# Altium footprint library Connector.PcbLib: 10 footprints
Each footprint in its own frame and in the unit in brackets; x right, y up, seen from the top. Pads: shape width x height; smd on the part's side, far side on the other; paste and mask are expansions set on the pad; w line width, h text height; cw(c..) or ccw(c..) is an arc to the next point about the centre after c.
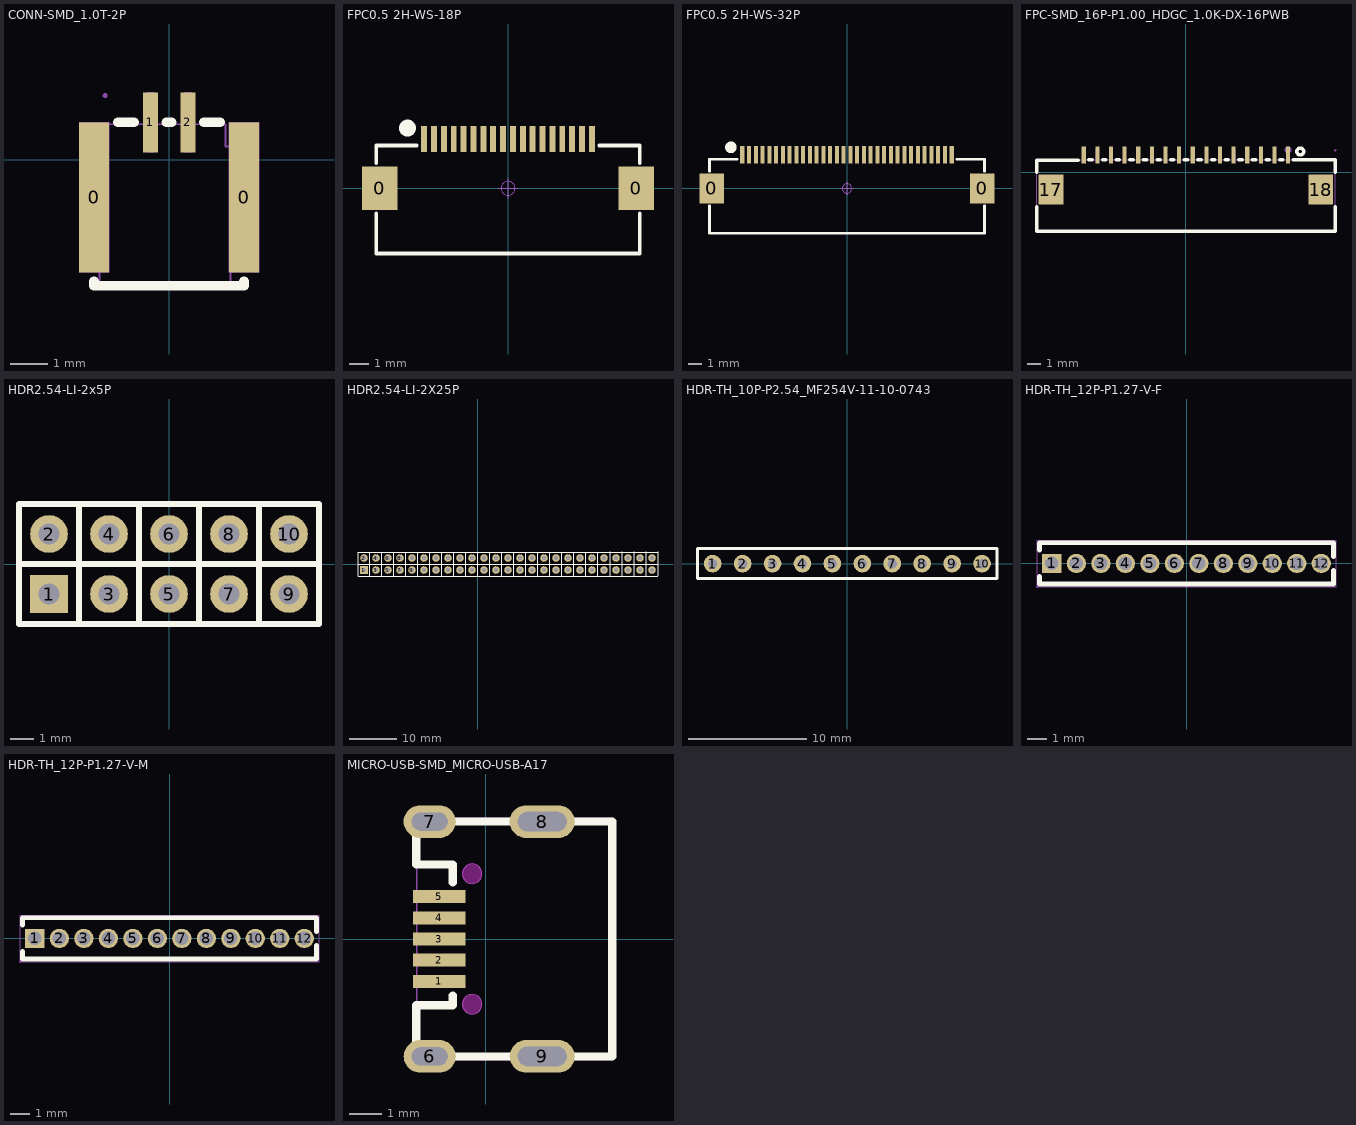
[diagram p0: the footprints below, top view; thin cyan lines are the x and y axes]

## CONN-SMD_1.0T-2P [mm]
pads (4):
  rect 0.8x4 smd paste+0 mask+0.051: 0(-2,-0.999) 0(2,-0.999)
  rect 0.4x1.6 smd paste+0 mask+0.051: 1(-0.498,0.999) 2(0.502,0.999)
Top Overlay:
  lines w0.254: -2,-3.23 -2,-3.349 2,-3.349 2,-3.23 ; -1.369,1.001 -1,1.001 ; -1.204,1.001 -0.929,1.001 ; -0.067,1.001 0.071,1.001 ; 0.933,1 1.369,1 ; 0.933,1.001 1.369,1.001
Mechanical 15:
  region: -1.645,1.715 -1.645,1.74 -1.68,1.775 -1.73,1.775 -1.765,1.74 -1.765,1.715 -1.765,1.69 -1.73,1.655 -1.68,1.655 -1.645,1.69 -1.645,1.715
  region: -2.4,1.001 -1.6,1.001 -1.6,-2.999 -2.4,-2.999
  region: 1.6,1.001 2.4,1.001 2.4,-2.999 1.6,-2.999
  region: 0.402,1.799 0.602,1.799 0.602,0.199 0.402,0.199
  region: -0.598,1.799 -0.398,1.799 -0.398,0.199 -0.598,0.199
  lines w0.051: -1.858,0.362 -1.858,-3.288 -1.857,-3.289 1.642,-3.289 ; -1.858,0.362 -1.858,0.362 ; -1.858,0.362 -1.719,0.362 -1.719,0.362 -1.717,0.951 1.501,0.951 ; 1.501,0.951 1.501,0.952 ; 1.501,0.952 1.501,0.362 1.502,0.361 1.642,0.361 ; 1.642,-3.289 1.642,0.361 ; 1.642,-3.289 1.642,-3.289 ; 1.642,0.361 1.642,0.361
3D body "CONN-SMD_1.0T-2P.STEP": height 2.45, standoff 0, extent -1.75,-3.397 1.75,1.603

## FPC0.5 2H-WS-18P [mm] "长：13.2mm，宽：5.2mm，高：2mm"
pads (20):
  rect 1.8x2.2 smd: 0(-6.5,0) 0(6.5,0)
  rect 0.3x1.3 smd: 1(-4.25,2.497) 2(-3.75,2.497) 3(-3.25,2.497) 4(-2.75,2.497) 5(-2.25,2.497) 6(-1.75,2.497) 7(-1.25,2.497) 8(-0.75,2.497) 9(-0.25,2.497) 10(0.25,2.497) 11(0.75,2.497) 12(1.25,2.497) 13(1.75,2.497) 14(2.25,2.497) 15(2.75,2.497) 16(3.25,2.497) 17(3.75,2.497) 18(4.25,2.497)
Top Overlay:
  circle w0.5: c-5.094,3.048 r0.18
  lines w0.2: -6.675,-1.27 -6.675,-3.302 6.675,-3.302 6.675,-1.27 ; -6.675,1.27 -6.675,2.159 -4.643,2.159 ; 4.643,2.159 6.675,2.159 6.675,1.27
Mechanical 15:
  circle w0.05: c0,0 r0.35
  lines w0.05: -0.5,0 0.5,0 ; 0,-0.5 0,0.5
3D body "FPC0.5 2H-S-W-18P.STEP": height 2, standoff -0.01, extent -6.6,-3.15 6.6,2.85

## FPC0.5 2H-WS-32P [mm] "长：20.2mm，宽：5.2mm，高：2mm"
pads (34):
  rect 1.8x2.2 smd: 0(-10,0) 0(10,0)
  rect 0.3x1.3 smd: 1(-7.75,2.497) 2(-7.25,2.497) 3(-6.75,2.497) 4(-6.25,2.497) 5(-5.75,2.497) 6(-5.25,2.497) 7(-4.75,2.497) 8(-4.25,2.497) 9(-3.75,2.497) 10(-3.25,2.497) 11(-2.75,2.497) 12(-2.25,2.497) 13(-1.75,2.497) 14(-1.25,2.497) 15(-0.75,2.497) 16(-0.25,2.497) 17(0.25,2.497) 18(0.75,2.497) 19(1.25,2.497) 20(1.75,2.497) 21(2.25,2.497) 22(2.75,2.497) 23(3.25,2.497) 24(3.75,2.497) 25(4.25,2.497) 26(4.75,2.497) 27(5.25,2.497) 28(5.75,2.497) 29(6.25,2.497) 30(6.75,2.497) 31(7.25,2.497) 32(7.75,2.497)
Top Overlay:
  circle w0.5: c-8.594,3.048 r0.18
  lines w0.2: -10.175,-1.27 -10.175,-3.302 10.175,-3.302 10.175,-1.27 ; -10.175,1.27 -10.175,2.159 -8.143,2.159 ; 8.143,2.159 10.175,2.159 10.175,1.27
Mechanical 15:
  circle w0.05: c0,0 r0.35
  lines w0.05: -0.5,0 0.5,0 ; 0,-0.5 0,0.5
3D body "FPC0.5 2H-S-W-32P.STEP": height 2, standoff -0.01, extent -10.1,-3.15 10.1,2.85

## FPC-SMD_16P-P1.00_HDGC_1.0K-DX-16PWB [mm]
pads (18):
  rect 0.3x1.25 smd paste+0 mask+0.05: 1(7.5,1.263) 2(6.5,1.263) 3(5.5,1.263) 4(4.5,1.263) 5(3.5,1.263) 6(2.5,1.263) 7(1.5,1.263) 8(0.5,1.263) 9(-0.5,1.263) 10(-1.5,1.263) 11(-2.5,1.263) 12(-3.5,1.263) 13(-4.5,1.263) 14(-5.5,1.263) 15(-6.5,1.263) 16(-7.5,1.263)
  rect 1.8x2.2 smd paste+0 mask+0.05: 17(-9.9,-1.263) 18(9.9,-1.263)
Top Overlay:
  circle w0.254: c8.382,1.524 r0.254
  lines w0.254: -10.95,-2.538 -10.95,-4.338 10.95,-4.338 10.95,-2.538 ; -10.95,0.012 -10.95,0.889 -7.881,0.889 ; -7.119,0.912 -6.881,0.912 ; -6.119,0.912 -5.881,0.912 ; -5.119,0.912 -4.881,0.912 ; -4.119,0.912 -3.881,0.912 ; -3.119,0.912 -2.881,0.912 ; -2.119,0.912 -1.881,0.912 ; -1.119,0.912 -0.881,0.912 ; -0.119,0.912 0.119,0.912 ; 0.881,0.912 1.119,0.912 ; 1.881,0.912 2.119,0.912 ; 2.881,0.912 3.119,0.912 ; 3.881,0.912 4.119,0.912 ; 4.881,0.912 5.119,0.912 ; 5.881,0.912 6.119,0.912 ; 6.881,0.912 7.119,0.912 ; 7.881,0.912 10.95,0.912 10.95,0.013
Mechanical 6:
  circle w0.254: c7.493,1.651 r0.127
Mechanical 15:
  region: 11.01,1.612 11.01,1.637 10.975,1.672 10.925,1.672 10.89,1.637 10.89,1.612 10.89,1.587 10.925,1.552 10.975,1.552 11.01,1.587 11.01,1.612
  region: 7.4,1.612 7.6,1.612 7.6,0.712 7.4,0.712
  region: 6.4,1.612 6.6,1.612 6.6,0.712 6.4,0.712
  region: 5.4,1.612 5.6,1.612 5.6,0.712 5.4,0.712
  region: 4.4,1.612 4.6,1.612 4.6,0.712 4.4,0.712
  region: 3.4,1.612 3.6,1.612 3.6,0.712 3.4,0.712
  region: 2.4,1.612 2.6,1.612 2.6,0.712 2.4,0.712
  region: 1.4,1.612 1.6,1.612 1.6,0.712 1.4,0.712
  region: 0.4,1.612 0.6,1.612 0.6,0.712 0.4,0.712
  region: -0.6,1.612 -0.4,1.612 -0.4,0.712 -0.6,0.712
  region: -1.6,1.612 -1.4,1.612 -1.4,0.712 -1.6,0.712
  region: -2.6,1.612 -2.4,1.612 -2.4,0.712 -2.6,0.712
  region: -3.6,1.612 -3.4,1.612 -3.4,0.712 -3.6,0.712
  region: -4.6,1.612 -4.4,1.612 -4.4,0.712 -4.6,0.712
  region: -5.6,1.612 -5.4,1.612 -5.4,0.712 -5.6,0.712
  region: -6.6,1.612 -6.4,1.612 -6.4,0.712 -6.6,0.712
  region: -7.6,1.612 -7.4,1.612 -7.4,0.712 -7.6,0.712
  region: -10.65,-0.263 -9.15,-0.263 -9.15,-2.263 -10.65,-2.263
  region: 9.15,-0.263 10.65,-0.263 10.65,-2.263 9.15,-2.263
  lines w0.051: -10.95,-4.338 -10.95,0.912 10.95,0.912 10.95,-4.338 -10.95,-4.338
3D body "FPC-SMD_16P-P1.00_HDGC_1.0K-DX-16PWB.STEP": height 2.03, standoff 0, extent -10.7,-4.582 10.7,1.368

## HDR2.54-LI-2x5P [mm] "双排排针，5x2脚"
pads (10):
  rect 1.6x1.6 hole 0.9: 1(-5.08,-1.27)
  round 1.6 hole 0.9: 2(-5.08,1.27) 3(-2.54,-1.27) 4(-2.54,1.27) 5(0,-1.27) 6(0,1.27) 7(2.54,-1.27) 8(2.54,1.27) 9(5.08,-1.27) 10(5.08,1.27)
Top Overlay:
  lines w0.254: -6.35,0 6.35,0 ; -3.81,-2.54 -3.81,2.54 ; -1.27,-2.54 -1.27,2.54 ; 1.27,-2.54 1.27,2.54 ; 3.81,-2.54 3.81,2.54 ; 6.35,-2.54 6.35,2.54 ; 6.35,-2.54 -6.35,-2.54 -6.35,2.54 6.35,2.54 ; 6.35,-2.54 6.35,2.54
3D body "HDR2.54-1x2P.STEP": height 8.5, standoff -3, extent 3.81,-2.54 6.35,2.54
3D body "HDR2.54-1x2P.STEP": height 8.5, standoff -3, extent -3.81,-2.54 -1.27,2.54
3D body "HDR2.54-1x2P.STEP": height 8.5, standoff -3, extent -6.35,-2.54 -3.81,2.54
3D body "HDR2.54-1x2P.STEP": height 8.5, standoff -3, extent 1.27,-2.54 3.81,2.54
3D body "HDR2.54-1x2P.STEP": height 8.5, standoff -3, extent -1.27,-2.54 1.27,2.54

## HDR2.54-LI-2X25P [mm] "双排排针，25x2脚"
pads (50):
  rect 1.6x1.6 hole 0.9: 1(-24.13,-1.27)
  round 1.6 hole 0.9: 2(-24.13,1.27) 3(-21.59,-1.27) 4(-21.59,1.27) 5(-19.05,-1.27) 6(-19.05,1.27) 7(-16.51,-1.27) 8(-16.51,1.27) 9(-13.97,-1.27) 10(-13.97,1.27) 11(-11.43,-1.27) 12(-11.43,1.27) 13(-8.89,-1.27) 14(-8.89,1.27) 15(-6.35,-1.27) 16(-6.35,1.27) 17(-3.81,-1.27) 18(-3.81,1.27) 19(-1.27,-1.27) 20(-1.27,1.27) 21(1.27,-1.27) 22(1.27,1.27) 23(3.81,-1.27) 24(3.81,1.27) 25(6.35,-1.27) 26(6.35,1.27) 27(8.89,-1.27) 28(8.89,1.27) 29(11.43,-1.27) 30(11.43,1.27) 31(13.97,-1.27) 32(13.97,1.27) 33(16.51,-1.27) 34(16.51,1.27) 35(19.05,-1.27) 36(19.05,1.27) 37(21.59,-1.27) 38(21.59,1.27) 39(24.13,-1.27) 40(24.13,1.27) 41(26.67,-1.27) 42(26.67,1.27) 43(29.21,-1.27) 44(29.21,1.27) 45(31.75,-1.27) 46(31.75,1.27) 47(34.29,-1.27) 48(34.29,1.27) 49(36.83,-1.27) 50(36.83,1.27)
Top Overlay:
  lines w0.2: 38.1,-2.54 -25.4,-2.54 -25.4,2.54 38.1,2.54
  lines w0.203: -25.4,0 38.1,0 ; -22.86,-2.54 -22.86,2.54 ; -20.32,-2.54 -20.32,2.54 ; -17.78,-2.54 -17.78,2.54 ; -15.24,-2.54 -15.24,2.54 ; -12.7,-2.54 -12.7,2.54 ; -10.16,-2.54 -10.16,2.54 ; -7.62,-2.54 -7.62,2.54 ; -5.08,-2.54 -5.08,2.54 ; -2.54,-2.54 -2.54,2.54 ; 0,-2.54 0,2.54 ; 2.54,-2.54 2.54,2.54 ; 5.08,-2.54 5.08,2.54 ; 7.62,-2.54 7.62,2.54 ; 10.16,-2.54 10.16,2.54 ; 12.7,-2.54 12.7,2.54 ; 15.24,-2.54 15.24,2.54 ; 17.78,-2.54 17.78,2.54 ; 20.32,-2.54 20.32,2.54 ; 22.86,-2.54 22.86,2.54 ; 25.4,-2.54 25.4,2.54 ; 27.94,-2.54 27.94,2.54 ; 30.48,-2.54 30.48,2.54 ; 33.02,-2.54 33.02,2.54 ; 35.56,-2.54 35.56,2.54 ; 38.1,-2.54 38.1,2.54
3D body "HDR2.54-1x2P.STEP": height 8.5, standoff -3, extent 33.02,-2.54 35.56,2.54
3D body "HDR2.54-1x2P.STEP": height 8.5, standoff -3, extent 25.4,-2.54 27.94,2.54
3D body "HDR2.54-1x2P.STEP": height 8.5, standoff -3, extent 30.48,-2.54 33.02,2.54
3D body "HDR2.54-1x2P.STEP": height 8.5, standoff -3, extent 27.94,-2.54 30.48,2.54
3D body "HDR2.54-1x2P.STEP": height 8.5, standoff -3, extent 35.56,-2.54 38.1,2.54
3D body "HDR2.54-1x2P.STEP": height 8.5, standoff -3, extent 17.78,-2.54 20.32,2.54
3D body "HDR2.54-1x2P.STEP": height 8.5, standoff -3, extent 20.32,-2.54 22.86,2.54
3D body "HDR2.54-1x2P.STEP": height 8.5, standoff -3, extent 12.7,-2.54 15.24,2.54
3D body "HDR2.54-1x2P.STEP": height 8.5, standoff -3, extent 15.24,-2.54 17.78,2.54
3D body "HDR2.54-1x2P.STEP": height 8.5, standoff -3, extent 22.86,-2.54 25.4,2.54
3D body "HDR2.54-1x2P.STEP": height 8.5, standoff -3, extent 5.08,-2.54 7.62,2.54
3D body "HDR2.54-1x2P.STEP": height 8.5, standoff -3, extent 7.62,-2.54 10.16,2.54
3D body "HDR2.54-1x2P.STEP": height 8.5, standoff -3, extent 0,-2.54 2.54,2.54
3D body "HDR2.54-1x2P.STEP": height 8.5, standoff -3, extent 2.54,-2.54 5.08,2.54
3D body "HDR2.54-1x2P.STEP": height 8.5, standoff -3, extent 10.16,-2.54 12.7,2.54
3D body "HDR2.54-1x2P.STEP": height 8.5, standoff -3, extent -7.62,-2.54 -5.08,2.54
3D body "HDR2.54-1x2P.STEP": height 8.5, standoff -3, extent -5.08,-2.54 -2.54,2.54
3D body "HDR2.54-1x2P.STEP": height 8.5, standoff -3, extent -12.7,-2.54 -10.16,2.54
3D body "HDR2.54-1x2P.STEP": height 8.5, standoff -3, extent -10.16,-2.54 -7.62,2.54
3D body "HDR2.54-1x2P.STEP": height 8.5, standoff -3, extent -2.54,-2.54 0,2.54
3D body "HDR2.54-1x2P.STEP": height 8.5, standoff -3, extent -20.32,-2.54 -17.78,2.54
3D body "HDR2.54-1x2P.STEP": height 8.5, standoff -3, extent -17.78,-2.54 -15.24,2.54
3D body "HDR2.54-1x2P.STEP": height 8.5, standoff -3, extent -25.4,-2.54 -22.86,2.54
3D body "HDR2.54-1x2P.STEP": height 8.5, standoff -3, extent -22.86,-2.54 -20.32,2.54
3D body "HDR2.54-1x2P.STEP": height 8.5, standoff -3, extent -15.24,-2.54 -12.7,2.54

## HDR-TH_10P-P2.54_MF254V-11-10-0743 [mm]
pads (10):
  round 1.5 hole 0.8 paste+0 mask+0.05: 1(-11.43,0) 2(-8.89,0) 3(-6.35,0) 4(-3.81,0) 5(-1.27,0) 6(1.27,0) 7(3.81,0) 8(6.35,0) 9(8.89,0) 10(11.43,0)
Top Overlay:
  lines w0.254: -12.7,-1.27 12.7,-1.27 12.7,1.27 -12.7,1.27 -12.7,-1.27
Mechanical 15:
  drawing of 15 lines, arcs and shapes, not listed
3D body "HDR-TH_10P-P2.54_MF254V-11-10-0743.STEP": height 4.57, standoff -2.8, extent -12.7,-1.407 12.7,1.143

## HDR-TH_12P-P1.27-V-F [mm] "12P排母"
pads (12):
  rect 1x1 hole 0.7 paste+0 mask+0.051: 1(-6.985,0)
  round 1 hole 0.7 paste+0 mask+0.051: 2(-5.715,0) 3(-4.445,0) 4(-3.175,0) 5(-1.905,0) 6(-0.635,0) 7(0.635,0) 8(1.905,0) 9(3.175,0) 10(4.445,0) 11(5.715,0) 12(6.985,0)
Top Overlay:
  lines w0.254: -7.62,-0.687 -7.62,-1.07 7.62,-1.07 ; -7.62,0.687 -7.62,1.07 7.62,1.07 ; 7.62,-1.07 7.62,-0.36 7.62,-1.07 ; 7.62,1.07 7.62,0.36 7.62,1.07
Mechanical 15:
  drawing of 17 lines, arcs and shapes, not listed
3D body "HDR-TH_12P-P1.27-V-F.STEP": height 4.3, standoff -2.4, extent -7.693,-1.05 7.957,1.05

## HDR-TH_12P-P1.27-V-M [mm] "12P排针"
pads (12):
  rect 1x1 hole 0.7 paste+0 mask+0.051: 1(-6.985,0)
  round 1 hole 0.7 paste+0 mask+0.051: 2(-5.715,0) 3(-4.445,0) 4(-3.175,0) 5(-1.905,0) 6(-0.635,0) 7(0.635,0) 8(1.905,0) 9(3.175,0) 10(4.445,0) 11(5.715,0) 12(6.985,0)
Top Overlay:
  lines w0.254: -7.62,-0.687 -7.62,-1.07 7.62,-1.07 ; -7.62,0.687 -7.62,1.07 7.62,1.07 ; 7.62,-1.07 7.62,-0.36 7.62,-1.07 ; 7.62,1.07 7.62,0.36 7.62,1.07
Mechanical 15:
  drawing of 17 lines, arcs and shapes, not listed
3D body "HDR-TH_12P-P1.27-V-M.STEP": height 4, standoff -1.8, extent -7.63,-1.177 7.62,0.923

## MICRO-USB-SMD_MICRO-USB-A17 [mm]
pads (9):
  rect 1.6x0.4 smd paste-100 mask+0.051: 1(-1.435,-1.3) 2(-1.435,-0.65) 3(-1.435,0) 4(-1.435,0.65) 5(-1.435,1.3)
  oval 1.6x1 hole 0.55 slot 1.1 at 0 deg copper offset 0.001,0 paste+0 mask+0.051: 6(-1.725,-3.599)
  oval 1.6x1 hole 0.55 slot 1.1 at 0 deg copper offset -0.001,0 paste+0 mask+0.051: 7(-1.725,3.599)
  oval 2x1 hole 0.6 slot 1.5 at 0 deg copper offset -0.001,0.001 paste+0 mask+0.051: 8(1.724,3.599)
  oval 2x1 hole 0.6 slot 1.5 at 0 deg copper offset 0.001,0.001 paste+0 mask+0.051: 9(1.724,-3.599)
Top Overlay:
  lines w0.254: -2.136,-3.581 -2.136,-2.032 -1.018,-2.032 -1.018,-1.731 ; -2.136,3.607 -2.136,2.286 -1.018,2.286 -1.018,1.731 ; -2.125,-3.6 3.875,-3.6 3.875,3.6 -2.125,3.6
Top Paste:
  region: -2.025,-4.1 -2.124,-4.1 -2.308,-4.024 -2.449,-3.883 -2.525,-3.699 -2.525,-3.501 -2.449,-3.317 -2.308,-3.176 -2.124,-3.1 -2.025,-3.1 -1.425,-3.1 -1.326,-3.1 -1.142,-3.176 -1.001,-3.317 -0.925,-3.501 -0.925,-3.699 -1.001,-3.883 -1.142,-4.024 -1.326,-4.1 -1.425,-4.1
  region: -2.025,3.1 -2.124,3.1 -2.308,3.176 -2.449,3.317 -2.525,3.501 -2.525,3.699 -2.449,3.883 -2.308,4.024 -2.124,4.1 -2.025,4.1 -1.425,4.1 -1.326,4.1 -1.142,4.024 -1.001,3.883 -0.925,3.699 -0.925,3.501 -1.001,3.317 -1.142,3.176 -1.326,3.1 -1.425,3.1
  region: 1.225,3.1 1.126,3.1 0.942,3.176 0.801,3.317 0.725,3.501 0.725,3.699 0.801,3.883 0.942,4.024 1.126,4.1 1.225,4.1 2.225,4.1 2.324,4.1 2.508,4.024 2.649,3.883 2.725,3.699 2.725,3.501 2.649,3.317 2.508,3.176 2.324,3.1 2.225,3.1
  region: 1.225,-4.1 1.126,-4.1 0.942,-4.024 0.801,-3.883 0.725,-3.699 0.725,-3.501 0.801,-3.317 0.942,-3.176 1.126,-3.1 1.225,-3.1 2.225,-3.1 2.324,-3.1 2.508,-3.176 2.649,-3.317 2.725,-3.501 2.725,-3.699 2.649,-3.883 2.508,-4.024 2.324,-4.1 2.225,-4.1
  region: -2.235,-1.5 -2.235,-1.1 -0.635,-1.1 -0.635,-1.5
  region: -2.235,-0.85 -2.235,-0.45 -0.635,-0.45 -0.635,-0.85
  region: -2.235,-0.2 -2.235,0.2 -0.635,0.2 -0.635,-0.2
  region: -2.235,0.45 -2.235,0.85 -0.635,0.85 -0.635,0.45
  region: -2.235,1.1 -2.235,1.5 -0.635,1.5 -0.635,1.1
Keep-Out Layer:
  board cut-out: -0.125,2 -0.125,2.06 -0.171,2.17 -0.255,2.254 -0.365,2.3 -0.485,2.3 -0.595,2.254 -0.679,2.17 -0.725,2.06 -0.725,2 -0.725,1.94 -0.679,1.83 -0.595,1.746 -0.485,1.7 -0.365,1.7 -0.255,1.746 -0.171,1.83 -0.125,1.94 -0.125,2
  board cut-out: -0.125,-2 -0.125,-1.94 -0.171,-1.83 -0.255,-1.746 -0.365,-1.7 -0.485,-1.7 -0.595,-1.746 -0.679,-1.83 -0.725,-1.94 -0.725,-2 -0.725,-2.06 -0.679,-2.17 -0.595,-2.254 -0.485,-2.3 -0.365,-2.3 -0.255,-2.254 -0.171,-2.17 -0.125,-2.06 -0.125,-2
Mechanical 1:
  circle w0.005: c-0.425,2 r0.3
  circle w0.005: c-0.425,-2 r0.3
Mechanical 15:
  region: -2.065,-3.725 -2.065,-3.7 -2.1,-3.665 -2.15,-3.665 -2.185,-3.7 -2.185,-3.725 -2.185,-3.75 -2.15,-3.785 -2.1,-3.785 -2.065,-3.75 -2.065,-3.725
  region: -1.325,3.7 -1.325,3.45 -2.125,3.45 -2.125,3.7
  region: -1.325,-3.475 -1.325,-3.725 -2.125,-3.725 -2.125,-3.475
  region: 2.175,-3.475 2.175,-3.725 1.275,-3.725 1.275,-3.475
  region: 2.175,3.7 2.175,3.45 1.275,3.45 1.275,3.7
  region: -1.07,1.425 -1.07,1.175 -2.02,1.175 -2.02,1.425
  region: -1.07,0.775 -1.07,0.525 -2.02,0.525 -2.02,0.775
  region: -1.07,0.125 -1.07,-0.125 -2.02,-0.125 -2.02,0.125
  region: -1.07,-0.525 -1.07,-0.775 -2.02,-0.775 -2.02,-0.525
  region: -1.07,-1.175 -1.07,-1.425 -2.02,-1.425 -2.02,-1.175
  lines w0.051: -2.125,-3.7 -2.125,3.7 3.875,3.7 3.875,-3.7 -2.125,-3.7
3D body "MICRO-USB-SMD_MICRO-USB-A17.STEP": height 2.53, standoff -0.97, extent -2.098,-3.75 4.002,3.75